# Altium integrated library TBP02R1-381-02BE.IntLib: 1 symbol
Pins are listed as number, name and electrical type; pins without a type are passive.

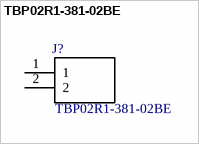
[diagram p0: symbol TBP02R1-381-02BE]

## TBP02R1-381-02BE
designator J?
Value: *
footprint *CUI_TBP02R1-381-02BE
pins: 1, 2